# EAGLE library part LINEAR-TECHNOLOGY-3_LTC4412* (library DLOCK_DAUGHTER_CARD_V0.2)
Low Loss PowerPath Controller
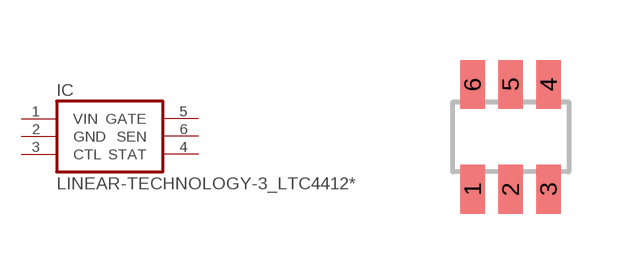
[diagram p5: symbol with the pads of LINEAR-TECHNOLOGY-3_TSOT23-6; footprint LINEAR-TECHNOLOGY-3_TSOT23-6]

Designator prefix IC

## LINEAR-TECHNOLOGY-3_LTC4412S6, LINEAR-TECHNOLOGY-3_LTC4412ES6  [LINEAR-TECHNOLOGY-3_TSOT23-6]
1  VIN  in
2  GND  pas
3  CTL  in
4  STAT  oc
5  GATE  out
6  SEN  in

## Footprint LINEAR-TECHNOLOGY-3_TSOT23-6 (pad centres in mm)
smd 0.622 x 1.22: 1 -0.95,-1.31; 2 0,-1.31; 3 0.95,-1.31; 4 0.95,1.31; 5 0,1.31; 6 -0.95,1.31